# Altium footprint library Crystal.PcbLib: 14 footprints
Each footprint in its own frame and in the unit in brackets; x right, y up, seen from the top. Pads: shape width x height; smd on the part's side, far side on the other; paste and mask are expansions set on the pad; w line width, h text height; cw(c..) or ccw(c..) is an arc to the next point about the centre after c.
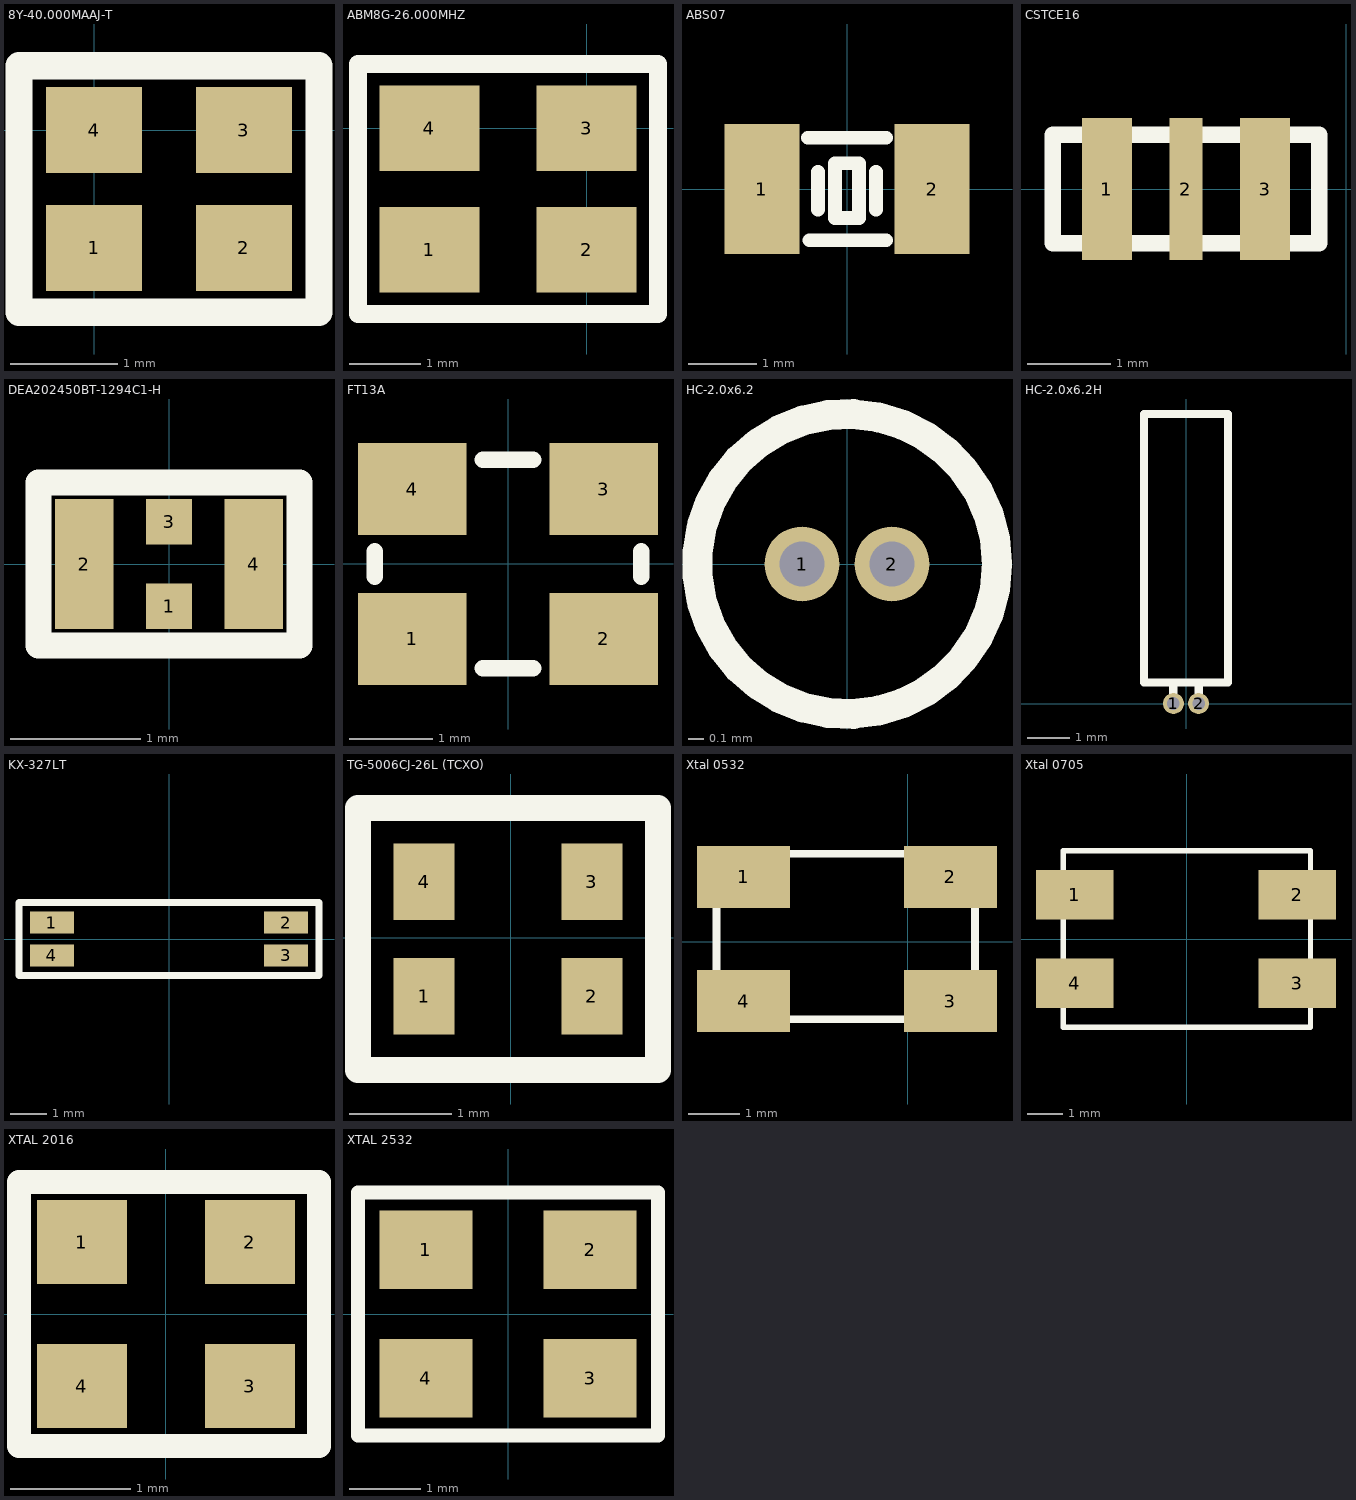
[diagram p0: the footprints below, top view; thin cyan lines are the x and y axes]

## 8Y-40.000MAAJ-T [mm]
pads (4):
  rect 0.9x0.8 smd: 1(0,-1.1) 2(1.4,-1.1) 3(1.4,0) 4(0,0)
Top Overlay:
  lines w0.254: -0.7,-1.7 -0.7,0.6 2.1,0.6 2.1,-1.7 -0.7,-1.7

## ABM8G-26.000MHZ [mm]
pads (4):
  rect 1.4x1.2 smd: 1(-2.2,-1.7) 2(0,-1.7) 3(0,0) 4(-2.2,0)
Top Overlay:
  lines w0.254: -3.2,-2.6 -3.2,0.9 1,0.9 1,-2.6 -3.2,-2.6

## ABS07 [mm] "Quartz ABS07 package"
pads (2):
  rect 1.1x1.9 smd: 1(-1.25,0) 2(1.25,0)
Top Overlay:
  lines w0.2: -0.575,0.75 0.575,0.75 ; -0.55,-0.75 0.575,-0.75 ; -0.425,-0.3 -0.425,0.25 ; 0.425,-0.3 0.425,0.25 ; -0.175,-0.425 -0.175,0.375 0.175,0.375 0.175,-0.425 -0.175,-0.425
3D body: height 0.9, standoff 0, extent -1.599,-0.749 1.599,0.749

## CSTCE16 [mm]
pads (3):
  rect 0.6x1.7 smd: 1(-2.875,0) 3(-0.975,0)
  rect 0.4x1.7 smd: 2(-1.925,0)
Top Overlay:
  lines w0.2: -3.525,-0.65 -0.325,-0.65 -0.325,0.65 -3.525,0.65 -3.525,-0.65
3D body "SW3dPS-CSTCE_V-1.STEP": height 1.02, standoff -0.09, extent -3.525,-0.65 -0.325,0.65

## DEA202450BT-1294C1-H [mm] "2.4GHz filter"
pads (4):
  rect 0.35x0.35 smd: 1(0,-0.325) 3(0,0.325)
  rect 0.45x1 smd: 2(-0.65,0) 4(0.65,0)
Top Overlay:
  lines w0.2: -1,-0.625 1,-0.625 1,0.625 -1,0.625 -1,-0.625

## FT13A [mm] "Quartz crystal FT13A package"
pads (4):
  rect 1.3x1.1 smd: 1(-1.15,-0.9) 2(1.15,-0.9) 3(1.15,0.9) 4(-1.15,0.9)
Top Overlay:
  lines w0.2: -1.6,-0.15 -1.6,0.15 ; -0.3,-1.25 0.3,-1.25 ; -0.3,1.25 0.3,1.25 ; 1.6,-0.15 1.6,0.15
3D body: height 0.7, standoff 0, extent -1.599,-1.249 1.599,1.249

## HC-2.0x6.2 [mm]
pads (2):
  round 0.5 hole 0.3: 1(-0.3,0) 2(0.3,0)
Top Overlay:
  circle w0.2: c0,0 r1
3D body: height 6.2, standoff 0, extent -1,-0.999 1,0.999

## HC-2.0x6.2H [mm]
pads (2):
  round 0.5 hole 0.3: 1(-0.3,0) 2(0.3,0)
Top Overlay:
  lines w0.2: -0.3,0 -0.3,0.5 ; 0.3,0 0.3,0.5 ; -1,0.5 1,0.5 1,6.9 -1,6.9 -1,0.5
3D body: height 1, standoff 0, extent 0.1,-0.2 0.5,0.2
3D body: height 1, standoff 0, extent -0.5,-0.2 -0.1,0.2
3D body: height 1.2, standoff 0.8, extent 0.1,0.1 0.5,0.6
3D body: height 1.2, standoff 0.8, extent -0.5,0.1 -0.1,0.6
3D body: height 2, standoff 0, extent -0.9,0.6 1.1,6.8
3D body: height 1.2, standoff 0.71, extent -0.5,-0.141 -0.1,0.353
3D body: height 1.2, standoff 0.71, extent 0.1,-0.141 0.5,0.353

## KX-327LT [mm]
pads (4):
  rect 1.2x0.6 smd: 1(-3.2,0.45) 2(3.2,0.45) 3(3.2,-0.45) 4(-3.2,-0.45)
Top Overlay:
  lines w0.2: -4.1,-1 -4.1,1 4.1,1 4.1,-1 -4.1,-1
3D body "User Library-KX-327LT.step": height 1.4, standoff 0, extent -3.45,-0.75 3.45,0.75

## TG-5006CJ-26L (TCXO) [mm]
pads (4):
  rect 0.6x0.75 smd: 1(-0.85,-0.575) 2(0.8,-0.575) 3(0.8,0.55) 4(-0.85,0.55)
Top Overlay:
  lines w0.254: -1.5,-1.3 -1.5,1.275 1.45,1.275 1.45,-1.3 -1.5,-1.3

## Xtal 0532 [mm]
pads (4):
  rect 1.8x1.2 smd: 1(-3.175,1.25) 2(0.825,1.25) 3(0.825,-1.15) 4(-3.175,-1.15)
Top Overlay:
  lines w0.15: -3.7,-1.5 1.3,-1.5 1.3,1.7 -3.7,1.7 -3.7,-1.5
3D body "User Library-GeyerElectronics_KX9B.STEP": height 1.12, standoff 0, extent -3.705,-1.505 1.305,1.705

## Xtal 0705 [mm]
pads (4):
  rect 2.2x1.4 smd: 1(-3.175,1.25) 2(3.125,1.25) 3(3.125,-1.25) 4(-3.175,-1.25)
Top Overlay:
  lines w0.15: -3.5,-2.5 -3.5,2.5 3.5,2.5 3.5,-2.5 -3.5,-2.5
3D body "Crystal-0705.step": height 1.31, standoff 0, extent -3.5,-2.525 3.5,2.475

## XTAL 2016 [mm] "KX-5"
pads (4):
  rect 0.75x0.7 smd: 1(-0.7,0.6) 2(0.7,0.6) 3(0.7,-0.6) 4(-0.7,-0.6)
Top Overlay:
  lines w0.2: -1.225,-1.1 -1.225,1.1 1.275,1.1 1.275,-1.1 -1.225,-1.1
3D body "User Library-GeyerElectronics_KX5.step": height 0.56, standoff 0, extent -1.05,-0.85 1.05,0.85

## XTAL 2532 [mm]
pads (4):
  rect 1.3x1.1 smd: 1(-1.15,0.9) 2(1.15,0.9) 3(1.15,-0.9) 4(-1.15,-0.9)
Top Overlay:
  lines w0.2: -2.1,-1.7 2.1,-1.7 2.1,1.7 -2.1,1.7 -2.1,-1.7
3D body "User Library-GeyerElectronics_KX7.step": height 0.81, standoff 0, extent -1.607,-1.25 1.607,1.25